# EAGLE library part GEMMA-LAYOUT (library custom_library)
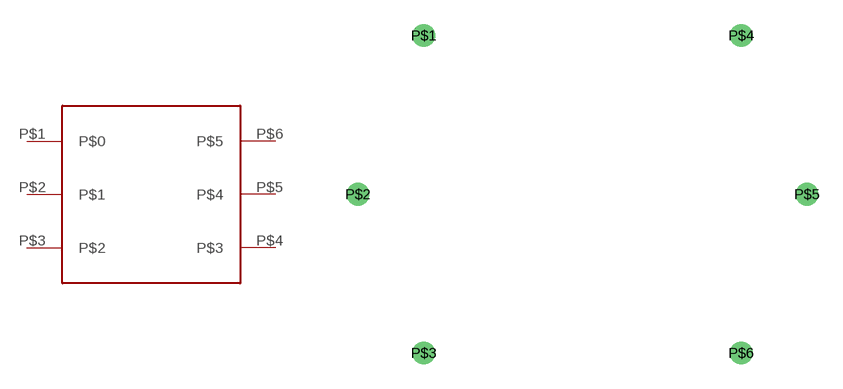
[diagram p1: symbol with the pads of GEMMA-LAYOUT; footprint GEMMA-LAYOUT]

Designator prefix -

## GEMMA-LAYOUT  [GEMMA-LAYOUT]
P$1  P$0
P$2  P$1
P$3  P$2
P$4  P$3
P$5  P$4
P$6  P$5

## Footprint GEMMA-LAYOUT (pad centres in mm)
drill 0.7 pad 1.422: P$1 -9.88,9.88; P$2 -13.97,0; P$3 -9.88,-9.88; P$4 9.88,9.88; P$5 13.97,0; P$6 9.88,-9.88